# Altium schematic symbol library MCP2551.SchLib: 1 symbol
Pins are listed as number, name and electrical type; pins without a type are passive.

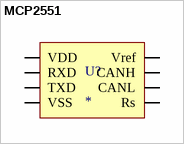
[diagram p0: symbol MCP2551]

## MCP2551
designator U?
pins: 1 TXD, 2 VSS, 3 VDD, 4 RXD, 5 Vref, 6 CANL, 7 CANH, 8 Rs